# Altium schematic symbol library XS_1P.Schlib: 1 symbol
Pins are listed as number, name and electrical type; pins without a type are passive.

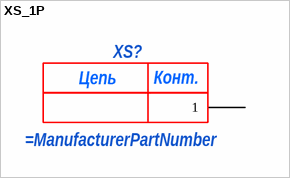
[diagram p0: symbol XS_1P]

## XS_1P
designator XS?
pins: 1
text: Цепь; Конт.